# Altium schematic symbol library Current Transducer.SchLib: 4 symbols
Pins are listed as number, name and electrical type; pins without a type are passive.

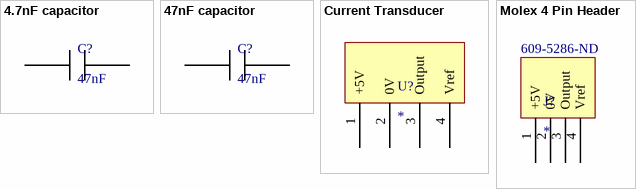
[diagram p0: symbols 4.7nF capacitor to Molex 4 Pin Header]

## 4.7nF capacitor
designator C?, comment 47nF
Supplier 1: Digi-Key; Supplier Part Number 1: 490-3254-6-ND
footprint CAPC1005X06N (Chip Capacitor, 2-Leads, Body 1.00x0.50mm, IPC Medium Density)
pins: 1, 2

## 47nF capacitor
designator C?, comment 47nF
311-1431-1-ND; Supplier 1: Digi-Key; Supplier Part Number 1: 490-3254-6-ND
footprint CAPC2012X10N (Chip Capacitor, 2-Leads, Body 2.00x1.25mm, IPC Medium Density)
pins: 1, 2

## Current Transducer
designator U?
Supplier 1: Newark; Supplier Part Number 1: 52K4609
footprint Current Transducer
pins: 1 +5V, 2 0V, 3 Output, 4 Vref

## Molex 4 Pin Header
designator J?  Supplier Part Number 1: 609-5286-ND
Supplier 1: Digi-Key
footprint 4 Pin Header
pins: 1 +5V, 2 0V, 3 Output, 4 Vref